# Altium schematic symbol library Board.SchLib: 17 symbols
Pins are listed as number, name and electrical type; pins without a type are passive.

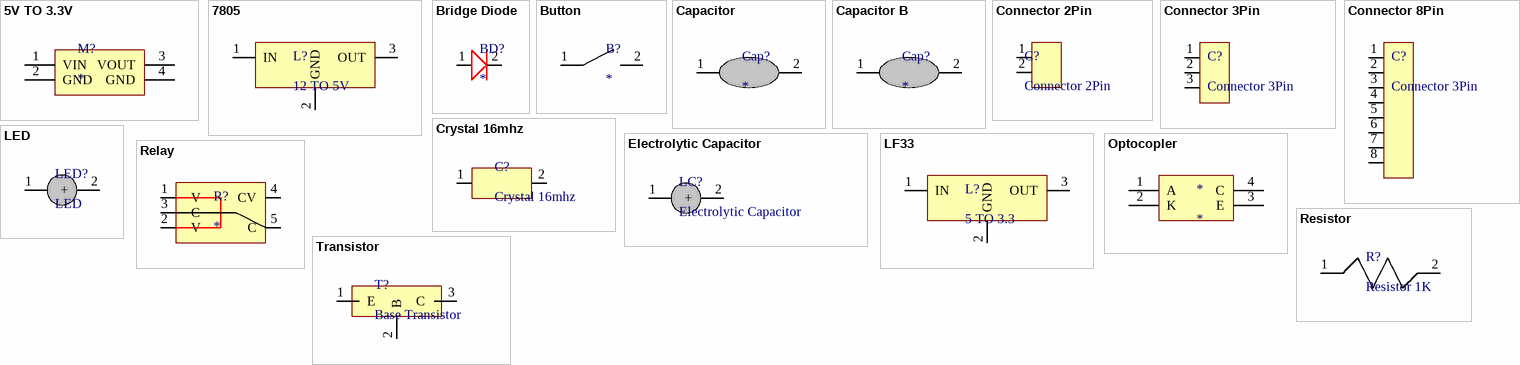
[diagram p0: symbols 5V TO 3.3V to Transistor]

## 5V TO 3.3V
designator M?
footprint 5V TO 3V
pins: 1 VIN, 2 GND, 3 VOUT, 4 GND

## 7805
designator L?, comment 12 TO 5V
footprint 7805
pins: 1 IN, 2 GND, 3 OUT

## Bridge Diode
designator BD?
footprint Bridge Diode
pins: 1, 2

## Button
designator B?
footprint Button
pins: 1, 2

## Capacitor
designator Cap?
footprint Capacitor
pins: 1, 2

## Capacitor B
designator Cap?
footprint Capacitor B
pins: 1, 2

## Connector 2Pin
designator C?
footprint Connector 2Pin
pins: 1, 2

## Connector 3Pin
designator C?
footprint Connector 3Pin
pins: 1, 2, 3

## Connector 8Pin
designator C?, comment Connector 3Pin
footprint Connector 8Pin
pins: 1, 2, 3, 4, 5, 6, 7, 8

## Crystal 16mhz
designator C?
footprint Crystal 16mhz
pins: 1, 2

## Electrolytic Capacitor
designator LC?
footprint Electrolytic Capacitor
pins: 1, 2 +

## LED
designator LED?
footprint LED
pins: 1, 2 +

## LF33
designator L?, comment 5 TO 3.3
footprint LF33
pins: 1 IN, 2 GND, 3 OUT

## Optocopler
designator *
footprint Optocopler
pins: 1 A, 2 K, 3 E, 4 C

## Relay
designator R?
footprint Relay
pins: 1 V, 2 V, 3 C, 4 CV, 5 C

## Resistor
designator R?, comment Resistor 1K
footprint Resistor
pins: 1, 2

## Transistor
designator T?, comment Base Transistor
footprint Transistor
pins: 1 E, 2 B, 3 C